# Altium schematic symbol library InBoard.SchLib: 15 symbols
Pins are listed as number, name and electrical type; pins without a type are passive.

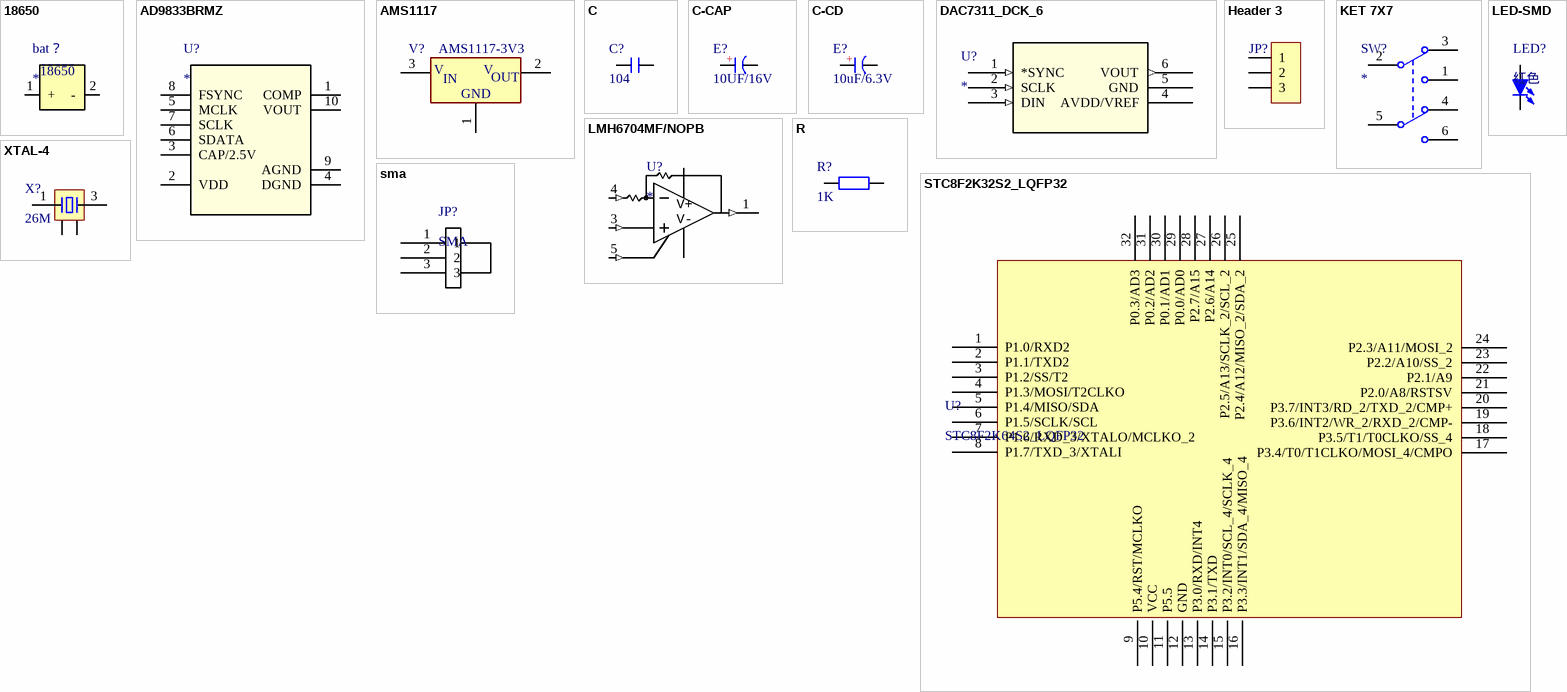
[diagram p0: symbols 18650 to XTAL-4]

## 18650
designator bat？
footprint PCBComponent_1
footprint 18650base
pins: 1 +, 2 -

## AD9833BRMZ
designator U?
Imported; Manufacturer_Part_Number: AD9833BRMZ; Vendor: Vendor; Value: Value; Type: Type; RefDes: Refdes
footprint RM_10
pins: 1 COMP, 2 VDD (power), 3 CAP/2.5V (power), 4 DGND, 5 MCLK, 6 SDATA, 7 SCLK, 8 FSYNC, 9 AGND, 10 VOUT

## AMS1117
designator V?, comment AMS1117-3V3
三端稳压芯片
footprint SOT223 (SOT223, 4-Leads, Body 6.5x3.5mm, Pitch 2.3mm, Lead Span 7mm, IPC Medium Density)
footprint SOT89 (SOT89, 3-Leads, Body 4.5x2.4 mm, Pitch 1.5mm, Lead Span 4.1mm, IPC Medium Density)
pins: 1 GND, 2 VOUT, 3 VIN
text: V; IN; OUT

## C
designator C?, comment 104
无极性贴片电容; 版权归属: 源创客; BOM名称: 无极性贴片电容; 学习资源: www.ooocke.com
footprint C 0201 (无极性贴片电容)
footprint C 0402 (无极性贴片电容)
footprint C 0603 (无极性贴片电容)
footprint C 0805 (无极性贴片电容)
footprint C 1206 (无极性贴片电容)
footprint C 1210 (无极性贴片电容)
footprint C 1808 (无极性贴片电容)
footprint C 1812 (无极性贴片电容)
footprint C 1825 (无极性贴片电容)
footprint C 2225 (无极性贴片电容)
pins: 1, 2

## C-CAP
designator E?, comment 10UF/16V
直插电解电容; 版权归属: 源创客; BOM名称: 直插电解电容; 学习资源: www.ooocke.com
footprint CAP 1.5*4*8 (脚距1.5mm直径4mm高度8mm)
footprint CAP 1.5*4*8 - BK (脚距1.5mm直径4mm高度8mm)
footprint CAP 1.5*4*8 - GD (脚距1.5mm直径4mm高度8mm)
footprint CAP 1.5*4*8-H (脚距1.5mm直径4mm高度8mm)
footprint CAP 1.5*4*8-H - BK (脚距1.5mm直径4mm高度8mm)
footprint CAP 1.5*4*8-H - GD (脚距1.5mm直径4mm高度8mm)
footprint CAP 2.0*5*11 (脚距2mm直径5mm高度11mm)
footprint CAP 2.0*5*11 - BK (脚距2mm直径5mm高度11mm)
footprint CAP 2.0*5*11 - GD (脚距2mm直径5mm高度11mm)
footprint CAP 2.0*5*11-H (脚距2mm直径5mm高度11mm)
footprint CAP 2.0*5*11-H - BK (脚距2mm直径5mm高度11mm)
footprint CAP 2.0*5*11-H - GD (脚距2mm直径5mm高度11mm)
footprint CAP 2.5*5*11 (脚距2.5mm直径5mm高度11mm)
footprint CAP 2.5*5*11 - BK (脚距2.5mm直径5mm高度11mm)
footprint CAP 2.5*5*11 - GD (脚距2.5mm直径5mm高度11mm)
footprint CAP 2.5*5*11-H (脚距2.5mm直径5mm高度11mm)
footprint CAP 2.5*5*11-H - BK (脚距2.5mm直径5mm高度11mm)
footprint CAP 2.5*5*11-H - GD (脚距2.5mm直径5mm高度11mm)
footprint CAP 2.5*6.3*7 (脚距2.5mm直径6.3mm高度7mm)
footprint CAP 2.5*6.3*7 - BK (脚距2.5mm直径6.3mm高度7mm)
footprint CAP 2.5*6.3*7 - GD (脚距2.5mm直径6.3mm高度7mm)
footprint CAP 2.5*6.3*7-H (脚距2.5mm直径6.3mm高度7mm)
footprint CAP 2.5*6.3*7-H - BK (脚距2.5mm直径6.3mm高度7mm)
footprint CAP 2.5*6.3*7-H - GD (脚距2.5mm直径6.3mm高度7mm)
footprint CAP 2.5*6.3*11.2 (脚距2.5mm直径6.3mm高度11.2mm)
footprint CAP 2.5*6.3*11.2 - BK (脚距2.5mm直径6.3mm高度11.2mm)
footprint CAP 2.5*6.3*11.2 - GD (脚距2.5mm直径6.3mm高度11.2mm)
footprint CAP 2.5*6.3*11.2-H (脚距2.5mm直径6.3mm高度11.2mm)
footprint CAP 2.5*6.3*11.2-H - BK (脚距2.5mm直径6.3mm高度11.2mm)
footprint CAP 2.5*6.3*11.2-H - GD (脚距2.5mm直径6.3mm高度11.2mm)
footprint CAP 3.5*8*11.5 (脚距3.5mm直径8mm高度11.5mm)
footprint CAP 3.5*8*11.5 - BK (脚距3.5mm直径8mm高度11.5mm)
footprint CAP 3.5*8*11.5 - GD (脚距3.5mm直径8mm高度11.5mm)
footprint CAP 3.5*8*11.5-H (脚距3.5mm直径8mm高度11.5mm)
footprint CAP 3.5*8*11.5-H - BK (脚距3.5mm直径8mm高度11.5mm)
footprint CAP 3.5*8*11.5-H - GD (脚距3.5mm直径8mm高度11.5mm)
footprint CAP 5.0*10*12.5 (脚距5mm直径10mm高度12.5mm)
footprint CAP 5.0*10*12.5 - BK (脚距5mm直径10mm高度12.5mm)
footprint CAP 5.0*10*12.5 - GD (脚距5mm直径10mm高度12.5mm)
footprint CAP 5.0*10*12.5-H (脚距5mm直径10mm高度12.5mm)
footprint CAP 5.0*10*12.5-H - BK (脚距5mm直径10mm高度12.5mm)
footprint CAP 5.0*10*12.5-H - GD (脚距5mm直径10mm高度12.5mm)
footprint CAP 5.0*10*16 (脚距5mm直径10mm高度16mm)
footprint CAP 5.0*10*16 - BK (脚距5mm直径10mm高度16mm)
footprint CAP 5.0*10*16 - GD (脚距5mm直径10mm高度16mm)
footprint CAP 5.0*10*16-H (脚距5mm直径10mm高度16mm)
footprint CAP 5.0*10*16-H - BK (脚距5mm直径10mm高度16mm)
footprint CAP 5.0*10*16-H - GD (脚距5mm直径10mm高度16mm)
footprint CAP 5.0*10*20 (脚距5mm直径10mm高度20mm)
footprint CAP 5.0*10*20 - BK (脚距5mm直径10mm高度20mm)
footprint CAP 5.0*10*20 - GD (脚距5mm直径10mm高度20mm)
footprint CAP 5.0*10*20-H (脚距5mm直径10mm高度20mm)
footprint CAP 5.0*10*20-H - BK (脚距5mm直径10mm高度20mm)
footprint CAP 5.0*10*20-H - GD (脚距5mm直径10mm高度20mm)
footprint CAP 5.0*12.5*20 (脚距5mm直径12.5mm高度20mm)
footprint CAP 5.0*12.5*20 - BK (脚距5mm直径12.5mm高度20mm)
footprint CAP 5.0*12.5*20 - GD (脚距5mm直径12.5mm高度20mm)
footprint CAP 5.0*12.5*20-H (脚距5mm直径12.5mm高度20mm)
footprint CAP 5.0*12.5*20-H - BK (脚距5mm直径12.5mm高度20mm)
footprint CAP 5.0*12.5*20-H - GD (脚距5mm直径12.5mm高度20mm)
footprint CAP 5.0*12.5*25 (脚距5mm直径12.5mm高度25mm)
footprint CAP 5.0*12.5*25 - BK (脚距5mm直径12.5mm高度25mm)
footprint CAP 5.0*12.5*25 - GD (脚距5mm直径12.5mm高度25mm)
footprint CAP 5.0*12.5*25-H (脚距5mm直径12.5mm高度25mm)
footprint CAP 5.0*12.5*25-H - BK (脚距5mm直径12.5mm高度25mm)
footprint CAP 5.0*12.5*25-H - GD (脚距5mm直径12.5mm高度25mm)
footprint CAP 7.5*16*25 (脚距7.5mm直径16mm高度25mm)
footprint CAP 7.5*16*25 - BK (脚距7.5mm直径16mm高度25mm)
footprint CAP 7.5*16*25 - GD (脚距7.5mm直径16mm高度25mm)
footprint CAP 7.5*16*25-H (脚距7.5mm直径16mm高度25mm)
footprint CAP 7.5*16*25-H - BK (脚距7.5mm直径16mm高度25mm)
footprint CAP 7.5*16*25-H - GD (脚距7.5mm直径16mm高度25mm)
footprint CAP 7.5*16*31.5 (脚距7.5mm直径16mm高度31.5mm)
footprint CAP 7.5*16*31.5 - BK (脚距7.5mm直径16mm高度31.5mm)
footprint CAP 7.5*16*31.5 - GD (脚距7.5mm直径16mm高度31.5mm)
footprint CAP 7.5*16*31.5-H (脚距7.5mm直径16mm高度31.5mm)
footprint CAP 7.5*16*31.5-H - BK (脚距7.5mm直径16mm高度31.5mm)
footprint CAP 7.5*16*31.5-H - GD (脚距7.5mm直径16mm高度31.5mm)
footprint CAP 7.5*18*35.5 (脚距7.5mm直径18mm高度35.5mm)
footprint CAP 7.5*18*35.5 - BK (脚距7.5mm直径18mm高度35.5mm)
footprint CAP 7.5*18*35.5 - GD (脚距7.5mm直径18mm高度35.5mm)
footprint CAP 7.5*18*35.5-H (脚距7.5mm直径18mm高度35.5mm)
footprint CAP 7.5*18*35.5-H - BK (脚距7.5mm直径18mm高度35.5mm)
footprint CAP 7.5*18*35.5-H - GD (脚距7.5mm直径18mm高度35.5mm)
footprint CAP 10*22*31.5 (脚距10mm直径22mm高度31.5mm)
footprint CAP 10*22*31.5 - BK (脚距10mm直径22mm高度31.5mm)
footprint CAP 10*22*31.5 - GD (脚距10mm直径22mm高度31.5mm)
footprint CAP 10*22*40 (脚距10mm直径22mm高度40mm)
footprint CAP 10*22*40 - BK (脚距10mm直径22mm高度40mm)
footprint CAP 10*22*40 - GD (脚距10mm直径22mm高度40mm)
pins: 1 A, 2 K
text: +

## C-CD
designator E?, comment 10uF/6.3V
贴片钽电容; 版权归属: 源创客; BOM名称: 贴片钽电容; 学习资源: www.ooocke.com
footprint CD A(3216) (长3.2mm，宽1.6mm，厚1.6mm)
footprint CD B(3528) (长3.5mm，宽2.8mm，厚1.9mm)
footprint CD C(6032) (长6.0mm，宽3.2mm，厚2.5mm)
footprint CD D(7343) (长7.3mm，宽4.3mm，厚2.8mm)
footprint CD E(7343H) (长7.3mm，宽4.3mm，厚4.0mm)
footprint CD S(2012) (长2.0mm，宽1.25mm，厚1.2mm)
pins: 1 A, 2 K
text: +

## DAC7311_DCK_6
designator U?
Imported; Manufacturer: Texas Instruments; GENERIC_PART_NUMBER: DAC7311; Manufacturer_Part_Number: dac7311_dck_6; INDUSTRY_STD_PKG_TYPE: SC70; FAMILY_NAME: PRECISION DAC (=<10MSPS); PIN_COUNT: 6; PACKAGE_DESIGNATOR: DCK; Datasheet_URL: http://www.ti.com/lit/gpn/DAC7311; Vendor: Texas Instruments; Value: Value; Type: Type; RefDes: RefDes
footprint DCK6
pins: 1 *SYNC (in), 2 SCLK (in), 3 DIN (in), 4 AVDD/VREF (power), 5 GND (power), 6 VOUT (out)

## Header 3
designator JP?, comment HDR-1X3  (value not drawn)
3P接插件; 版权归属: 源创客; BOM名称: 3P接插件; 学习资源: www.ooocke.com
footprint HDR-1X3 (排针，3脚)
footprint HDR-1X3_M (排母，3脚)
footprint XH2.54-3P (接插件，3P)
footprint VH3.96-3P (接插件，25V/5A)
footprint XH2.54-3P_H (接插件，3P)
footprint HDR-1X3_H (弯脚排针，3脚)
footprint KF2510-3P (接插件/2A)
footprint HDR-1X3_Y (圆孔排母，3脚)
footprint VH3.96-3P_H (接插件，25V/5A)
footprint KF301-3P (可拼接端子/6A)
footprint KF2EDGK5.0-3P (直列插拔式端子)
footprint PH2.0 D-L-3P (接插件/1A)
footprint PH2.0 D-W-3P (接插件/1A)
footprint KF2EDGK5.0-3P_H (弯角插拔式端子)
footprint KF7620-3P (22.8*12*12mm(长宽高))
footprint KF350-3P (可拼接端子/10A)
footprint KF128-3.81-3P (螺钉式接线端子，脚距3.81mm)
footprint KF128-5.08-3P (螺钉式接线端子，脚距5.08mm)
footprint PH2.0 S-W-3P (长：10mm，宽：7.6mm，高：5.5mm)
footprint KF2EDGK5.08-3P (直列插拔式端子)
footprint KF2EDGK5.08-3P_H (弯角插拔式端子)
footprint HDR2.54 S-W-3P (3P卧式贴片排针2.54)
footprint HDR2.54 S-W-3P_M (3P卧式贴片排母2.54)
pins: 1, 2, 3

## KET 7X7
designator SW?
7*7自锁开关; 版权归属: 源创客; BOM名称: 7*7自锁开关; 学习资源: www.ooocke.com
footprint KFT DIP-7X7 (自锁开关，规格：7*7mm)
pins: 1 NC1, 2 COM2, 3 NO1, 4 NO2, 5 COM2, 6 NC2

## LED-SMD
designator LED?, comment 红色
贴片LED
footprint LED 0603B (蓝色0603LED)
footprint LED 0805B (蓝色0805LED)
pins: 1 A, 2 K

## LMH6704MF/NOPB
designator U?
Manufacturer: NationalSemiconductor; Value: LMH6704MF; Characteristics: LMH6704MF650MHzProgrammableGainBufferwithShutdown; CompType: BufferIC; TaMin_C: -400; TaMax_C: 850; ComponentLink1DescBC: LMH6704Datasheet; ComponentLink2DescA4: LMH6704WebPage; ComponentLink3DescAC: MF06APackageWebPage; Copyright: Copyright (C) 2018 Accelerated Designs. All rights reserved; SymbolVersion: 2008-07-09; PartNumber: LMH6704MF; PackageDescription: 6LeadSOT-23; PackageReference: MF06A_L; RoHS: O; ComponentLink1URL: http//wwwnationalcom/ds/LM/LMH6704pdf; ComponentLink2URL: http//wwwnationalcom/pf/LM/LMH6704html; ComponentLink3URL: http//wwwnationalcom/packaging/folders/mf06ahtml; Version: B1608; LatestRevisionDate: 2009-03-16; LatestRevisionNote: MassUpdate; Publisher: NationalSemiconductor; Published: 2009-03-16
footprint SOT23-6L (3x1.6x1.1mm(长宽高))
pins: 1 A_OUT (out), 3 IN+ (in), 4 IN- (in), 5 DIS (in)
text: V+; V-

## R
designator R?, comment 1K
贴片电阻; 版权归属: 源创客; BOM名称: 贴片电阻; 学习资源: www.ooocke.com
footprint R 0201 (1/20W贴片电阻)
footprint R 0201-HP (1/20W高精度贴片电阻)
footprint R 0402 (1/16W贴片电阻)
footprint R 0402-HP (1/16W高精度贴片电阻)
footprint R 0603 (1/10W贴片电阻)
footprint R 0603-HP (1/10W高精度贴片电阻)
footprint R 0805 (1/8W贴片电阻)
footprint R 0805-HP (1/8W高精度贴片电阻)
footprint R 1206 (1/4W贴片电阻)
footprint R 1206-HP (1/4W高精度贴片电阻)
footprint R 1210 (1/3W贴片电阻)
footprint R 1210-HP (1/3W高精度贴片电阻)
footprint R 1812 (1/2W贴片电阻)
footprint R 1812-HP (1/2W高精度贴片电阻)
footprint R 2010 (3/4W贴片电阻)
footprint R 2010-HP (3/4W高精度贴片电阻)
footprint R 2512 (1W贴片电阻)
footprint R 2512-HP (1W高精度贴片电阻)
pins: 1, 2

## sma
designator JP?, comment SMA
footprint SMA_khd
pins: 1, 2, 3

## STC8F2K32S2_LQFP32
designator U?, comment STC8F2K64S2_LQFP32
footprint LQFP32
pins: 1 P1.0/RXD2, 2 P1.1/TXD2, 3 P1.2/SS/T2, 4 P1.3/MOSI/T2CLKO, 5 P1.4/MISO/SDA, 6 P1.5/SCLK/SCL, 7 P1.6/RXD_3/XTALO/MCLKO_2, 8 P1.7/TXD_3/XTALI, 9 P5.4/RST/MCLKO, 10 VCC, 11 P5.5, 12 GND, 13 P3.0/RXD/INT4, 14 P3.1/TXD, 15 P3.2/INT0/SCL_4/SCLK_4, 16 P3.3/INT1/SDA_4/MISO_4, 17 P3.4/T0/T1CLKO/MOSI_4/CMPO, 18 P3.5/T1/T0CLKO/SS_4, 19 P3.6/INT2/WR_2/RXD_2/CMP-, 20 P3.7/INT3/RD_2/TXD_2/CMP+, 21 P2.0/A8/RSTSV, 22 P2.1/A9, 23 P2.2/A10/SS_2, 24 P2.3/A11/MOSI_2, 25 P2.4/A12/MISO_2/SDA_2, 26 P2.5/A13/SCLK_2/SCL_2, 27 P2.6/A14, 28 P2.7/A15, 29 P0.0/AD0, 30 P0.1/AD1, 31 P0.2/AD2, 32 P0.3/AD3

## XTAL-4
designator X?, comment 26M
4脚晶振
footprint XTAL-5032
footprint XTAL-3225
footprint XTAL-3225-AM
pins: 1, 2, 3, 4